# Altium footprint library 通用接插件.PcbLib: 40 footprints (part 3 of 3)
Each footprint in its own frame and in the unit in brackets; x right, y up, seen from the top. Pads: shape width x height; smd on the part's side, far side on the other; paste and mask are expansions set on the pad; w line width, h text height; cw(c..) or ccw(c..) is an arc to the next point about the centre after c.
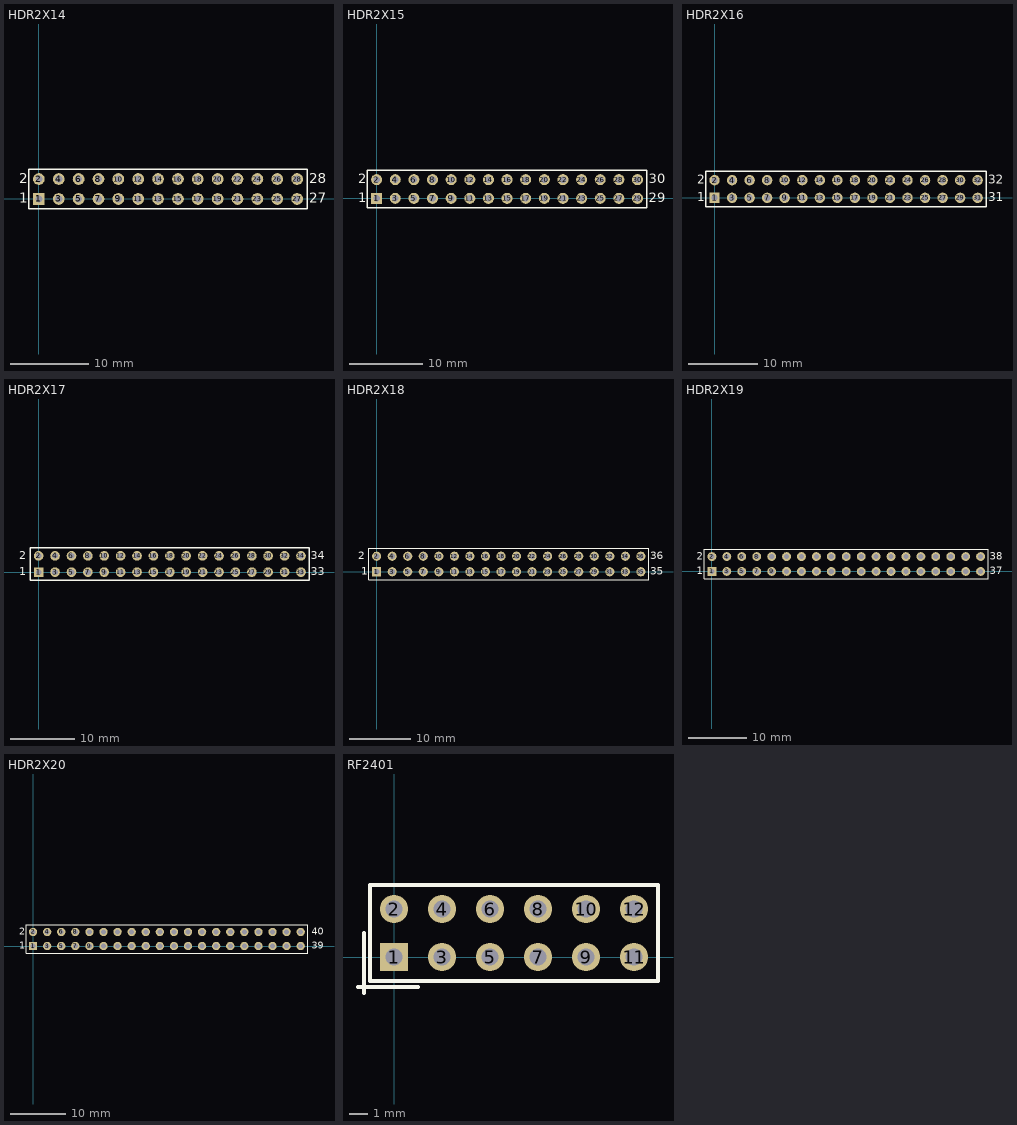
[diagram p2: the footprints below, top view; thin cyan lines are the x and y axes]

## HDR2X14 [mm] "Connector; Header; 14x2 Position"
pads (28):
  rect 1.5x1.5 hole 0.9: 1(0,0)
  round 1.5 hole 0.9: 2(0,2.54) 3(2.54,0) 4(2.54,2.54) 5(5.08,0) 6(5.08,2.54) 7(7.62,0) 8(7.62,2.54) 9(10.16,0) 10(10.16,2.54) 11(12.7,0) 12(12.7,2.54) 13(15.24,0) 14(15.24,2.54) 15(17.78,0) 16(17.78,2.54) 17(20.32,0) 18(20.32,2.54) 19(22.86,0) 20(22.86,2.54) 21(25.4,0) 22(25.4,2.54) 23(27.94,0) 24(27.94,2.54) 25(30.48,0) 26(30.48,2.54) 27(33.02,0) 28(33.02,2.54)
Top Overlay:
  lines w0.2: -1.27,-1.27 -1.27,3.81 34.29,3.81 34.29,-1.27 -1.27,-1.27
  text "2" at -2.54,2.032 h1.27
  text "1" at -2.54,-0.508 h1.27
  text "27" at 34.544,-0.508 h1.27
  text "28" at 34.544,2.032 h1.27
3D body: height 7.58, standoff -2.94, extent 31.75,1.27 34.29,3.81
3D body: height 7.58, standoff -2.94, extent 29.21,1.27 31.75,3.81
3D body: height 7.58, standoff -2.94, extent 31.75,-1.27 34.29,1.27
3D body: height 7.58, standoff -2.94, extent 29.21,-1.27 31.75,1.27
3D body: height 7.58, standoff -2.94, extent 26.67,1.27 29.21,3.81
3D body: height 7.58, standoff -2.94, extent 24.13,1.27 26.67,3.81
3D body: height 7.58, standoff -2.94, extent 21.59,1.27 24.13,3.81
3D body: height 7.58, standoff -2.94, extent 19.05,1.27 21.59,3.81
3D body: height 7.58, standoff -2.94, extent 26.67,-1.27 29.21,1.27
3D body: height 7.58, standoff -2.94, extent 24.13,-1.27 26.67,1.27
3D body: height 7.58, standoff -2.94, extent 21.59,-1.27 24.13,1.27
3D body: height 7.58, standoff -2.94, extent 19.05,-1.27 21.59,1.27
3D body: height 7.58, standoff -2.94, extent 16.51,1.27 19.05,3.81
3D body: height 7.58, standoff -2.94, extent 13.97,1.27 16.51,3.81
3D body: height 7.58, standoff -2.94, extent 11.43,1.27 13.97,3.81
3D body: height 7.58, standoff -2.94, extent 8.89,1.27 11.43,3.81
3D body: height 7.58, standoff -2.94, extent 16.51,-1.27 19.05,1.27
3D body: height 7.58, standoff -2.94, extent 13.97,-1.27 16.51,1.27
3D body: height 7.58, standoff -2.94, extent 11.43,-1.27 13.97,1.27
3D body: height 7.58, standoff -2.94, extent 8.89,-1.27 11.43,1.27
3D body: height 7.58, standoff -2.94, extent 6.35,1.27 8.89,3.81
3D body: height 7.58, standoff -2.94, extent 3.81,1.27 6.35,3.81
3D body: height 7.58, standoff -2.94, extent 1.27,1.27 3.81,3.81
3D body: height 7.58, standoff -2.94, extent -1.27,1.27 1.27,3.81
3D body: height 7.58, standoff -2.94, extent 6.35,-1.27 8.89,1.27
3D body: height 7.58, standoff -2.94, extent 3.81,-1.27 6.35,1.27
3D body: height 7.58, standoff -2.94, extent 1.27,-1.27 3.81,1.27
3D body: height 7.58, standoff -2.94, extent -1.27,-1.27 1.27,1.27

## HDR2X15 [mm] "Connector; Header; 15x2 Position"
pads (30):
  rect 1.5x1.5 hole 0.9: 1(0,0)
  round 1.5 hole 0.9: 2(0,2.54) 3(2.54,0) 4(2.54,2.54) 5(5.08,0) 6(5.08,2.54) 7(7.62,0) 8(7.62,2.54) 9(10.16,0) 10(10.16,2.54) 11(12.7,0) 12(12.7,2.54) 13(15.24,0) 14(15.24,2.54) 15(17.78,0) 16(17.78,2.54) 17(20.32,0) 18(20.32,2.54) 19(22.86,0) 20(22.86,2.54) 21(25.4,0) 22(25.4,2.54) 23(27.94,0) 24(27.94,2.54) 25(30.48,0) 26(30.48,2.54) 27(33.02,0) 28(33.02,2.54) 29(35.56,0) 30(35.56,2.54)
Top Overlay:
  lines w0.2: -1.27,-1.27 -1.27,3.81 36.83,3.81 36.83,-1.27 -1.27,-1.27
  text "30" at 37.084,2.032 h1.27
  text "29" at 37.084,-0.508 h1.27
  text "2" at -2.54,2.032 h1.27
  text "1" at -2.54,-0.508 h1.27
3D body: height 7.58, standoff -2.94, extent -1.27,-1.27 1.27,1.27
3D body: height 7.58, standoff -2.94, extent 1.27,-1.27 3.81,1.27
3D body: height 7.58, standoff -2.94, extent 3.81,-1.27 6.35,1.27
3D body: height 7.58, standoff -2.94, extent 6.35,-1.27 8.89,1.27
3D body: height 7.58, standoff -2.94, extent -1.27,1.27 1.27,3.81
3D body: height 7.58, standoff -2.94, extent 1.27,1.27 3.81,3.81
3D body: height 7.58, standoff -2.94, extent 3.81,1.27 6.35,3.81
3D body: height 7.58, standoff -2.94, extent 6.35,1.27 8.89,3.81
3D body: height 7.58, standoff -2.94, extent 8.89,-1.27 11.43,1.27
3D body: height 7.58, standoff -2.94, extent 11.43,-1.27 13.97,1.27
3D body: height 7.58, standoff -2.94, extent 13.97,-1.27 16.51,1.27
3D body: height 7.58, standoff -2.94, extent 16.51,-1.27 19.05,1.27
3D body: height 7.58, standoff -2.94, extent 8.89,1.27 11.43,3.81
3D body: height 7.58, standoff -2.94, extent 11.43,1.27 13.97,3.81
3D body: height 7.58, standoff -2.94, extent 13.97,1.27 16.51,3.81
3D body: height 7.58, standoff -2.94, extent 16.51,1.27 19.05,3.81
3D body: height 7.58, standoff -2.94, extent 19.05,-1.27 21.59,1.27
3D body: height 7.58, standoff -2.94, extent 21.59,-1.27 24.13,1.27
3D body: height 7.58, standoff -2.94, extent 24.13,-1.27 26.67,1.27
3D body: height 7.58, standoff -2.94, extent 26.67,-1.27 29.21,1.27
3D body: height 7.58, standoff -2.94, extent 19.05,1.27 21.59,3.81
3D body: height 7.58, standoff -2.94, extent 21.59,1.27 24.13,3.81
3D body: height 7.58, standoff -2.94, extent 24.13,1.27 26.67,3.81
3D body: height 7.58, standoff -2.94, extent 26.67,1.27 29.21,3.81
3D body: height 7.58, standoff -2.94, extent 29.21,-1.27 31.75,1.27
3D body: height 7.58, standoff -2.94, extent 31.75,-1.27 34.29,1.27
3D body: height 7.58, standoff -2.94, extent 34.29,-1.27 36.83,1.27
3D body: height 7.58, standoff -2.94, extent 29.21,1.27 31.75,3.81
3D body: height 7.58, standoff -2.94, extent 31.75,1.27 34.29,3.81
3D body: height 7.58, standoff -2.94, extent 34.29,1.27 36.83,3.81

## HDR2X16 [mm] "Connector; Header; 16x2 Position"
pads (32):
  rect 1.5x1.5 hole 0.9: 1(0,0)
  round 1.5 hole 0.9: 2(0,2.54) 3(2.54,0) 4(2.54,2.54) 5(5.08,0) 6(5.08,2.54) 7(7.62,0) 8(7.62,2.54) 9(10.16,0) 10(10.16,2.54) 11(12.7,0) 12(12.7,2.54) 13(15.24,0) 14(15.24,2.54) 15(17.78,0) 16(17.78,2.54) 17(20.32,0) 18(20.32,2.54) 19(22.86,0) 20(22.86,2.54) 21(25.4,0) 22(25.4,2.54) 23(27.94,0) 24(27.94,2.54) 25(30.48,0) 26(30.48,2.54) 27(33.02,0) 28(33.02,2.54) 29(35.56,0) 30(35.56,2.54) 31(38.1,0) 32(38.1,2.54)
Top Overlay:
  lines w0.2: -1.27,-1.27 -1.27,3.81 39.37,3.81 39.37,-1.27 -1.27,-1.27
  text "32" at 39.624,2.032 h1.27
  text "31" at 39.624,-0.508 h1.27
  text "1" at -2.54,-0.508 h1.27
  text "2" at -2.54,2.032 h1.27
3D body: height 7.58, standoff -2.94, extent 36.83,1.27 39.37,3.81
3D body: height 7.58, standoff -2.94, extent 34.29,1.27 36.83,3.81
3D body: height 7.58, standoff -2.94, extent 31.75,1.27 34.29,3.81
3D body: height 7.58, standoff -2.94, extent 29.21,1.27 31.75,3.81
3D body: height 7.58, standoff -2.94, extent 36.83,-1.27 39.37,1.27
3D body: height 7.58, standoff -2.94, extent 34.29,-1.27 36.83,1.27
3D body: height 7.58, standoff -2.94, extent 31.75,-1.27 34.29,1.27
3D body: height 7.58, standoff -2.94, extent 29.21,-1.27 31.75,1.27
3D body: height 7.58, standoff -2.94, extent 26.67,1.27 29.21,3.81
3D body: height 7.58, standoff -2.94, extent 24.13,1.27 26.67,3.81
3D body: height 7.58, standoff -2.94, extent 21.59,1.27 24.13,3.81
3D body: height 7.58, standoff -2.94, extent 19.05,1.27 21.59,3.81
3D body: height 7.58, standoff -2.94, extent 26.67,-1.27 29.21,1.27
3D body: height 7.58, standoff -2.94, extent 24.13,-1.27 26.67,1.27
3D body: height 7.58, standoff -2.94, extent 21.59,-1.27 24.13,1.27
3D body: height 7.58, standoff -2.94, extent 19.05,-1.27 21.59,1.27
3D body: height 7.58, standoff -2.94, extent 16.51,1.27 19.05,3.81
3D body: height 7.58, standoff -2.94, extent 13.97,1.27 16.51,3.81
3D body: height 7.58, standoff -2.94, extent 11.43,1.27 13.97,3.81
3D body: height 7.58, standoff -2.94, extent 8.89,1.27 11.43,3.81
3D body: height 7.58, standoff -2.94, extent 16.51,-1.27 19.05,1.27
3D body: height 7.58, standoff -2.94, extent 13.97,-1.27 16.51,1.27
3D body: height 7.58, standoff -2.94, extent 11.43,-1.27 13.97,1.27
3D body: height 7.58, standoff -2.94, extent 8.89,-1.27 11.43,1.27
3D body: height 7.58, standoff -2.94, extent 6.35,1.27 8.89,3.81
3D body: height 7.58, standoff -2.94, extent 3.81,1.27 6.35,3.81
3D body: height 7.58, standoff -2.94, extent 1.27,1.27 3.81,3.81
3D body: height 7.58, standoff -2.94, extent -1.27,1.27 1.27,3.81
3D body: height 7.58, standoff -2.94, extent 6.35,-1.27 8.89,1.27
3D body: height 7.58, standoff -2.94, extent 3.81,-1.27 6.35,1.27
3D body: height 7.58, standoff -2.94, extent 1.27,-1.27 3.81,1.27
3D body: height 7.58, standoff -2.94, extent -1.27,-1.27 1.27,1.27

## HDR2X17 [mm] "Connector; Header; 17x2 Position"
pads (34):
  rect 1.5x1.5 hole 0.9: 1(0,0)
  round 1.5 hole 0.9: 2(0,2.54) 3(2.54,0) 4(2.54,2.54) 5(5.08,0) 6(5.08,2.54) 7(7.62,0) 8(7.62,2.54) 9(10.16,0) 10(10.16,2.54) 11(12.7,0) 12(12.7,2.54) 13(15.24,0) 14(15.24,2.54) 15(17.78,0) 16(17.78,2.54) 17(20.32,0) 18(20.32,2.54) 19(22.86,0) 20(22.86,2.54) 21(25.4,0) 22(25.4,2.54) 23(27.94,0) 24(27.94,2.54) 25(30.48,0) 26(30.48,2.54) 27(33.02,0) 28(33.02,2.54) 29(35.56,0) 30(35.56,2.54) 31(38.1,0) 32(38.1,2.54) 33(40.64,0) 34(40.64,2.54)
Top Overlay:
  lines w0.2: -1.27,-1.27 -1.27,3.81 41.91,3.81 41.91,-1.27 -1.27,-1.27
  text "2" at -3.048,2.032 h1.27
  text "1" at -3.048,-0.508 h1.27
  text "33" at 42.164,-0.508 h1.27
  text "34" at 42.164,2.032 h1.27
3D body: height 7.58, standoff -2.94, extent 39.37,1.27 41.91,3.81
3D body: height 7.58, standoff -2.94, extent 39.37,-1.27 41.91,1.27
3D body: height 7.58, standoff -2.94, extent 36.83,1.27 39.37,3.81
3D body: height 7.58, standoff -2.94, extent 34.29,1.27 36.83,3.81
3D body: height 7.58, standoff -2.94, extent 31.75,1.27 34.29,3.81
3D body: height 7.58, standoff -2.94, extent 29.21,1.27 31.75,3.81
3D body: height 7.58, standoff -2.94, extent 36.83,-1.27 39.37,1.27
3D body: height 7.58, standoff -2.94, extent 34.29,-1.27 36.83,1.27
3D body: height 7.58, standoff -2.94, extent 31.75,-1.27 34.29,1.27
3D body: height 7.58, standoff -2.94, extent 29.21,-1.27 31.75,1.27
3D body: height 7.58, standoff -2.94, extent 26.67,1.27 29.21,3.81
3D body: height 7.58, standoff -2.94, extent 24.13,1.27 26.67,3.81
3D body: height 7.58, standoff -2.94, extent 21.59,1.27 24.13,3.81
3D body: height 7.58, standoff -2.94, extent 19.05,1.27 21.59,3.81
3D body: height 7.58, standoff -2.94, extent 26.67,-1.27 29.21,1.27
3D body: height 7.58, standoff -2.94, extent 24.13,-1.27 26.67,1.27
3D body: height 7.58, standoff -2.94, extent 21.59,-1.27 24.13,1.27
3D body: height 7.58, standoff -2.94, extent 19.05,-1.27 21.59,1.27
3D body: height 7.58, standoff -2.94, extent 16.51,1.27 19.05,3.81
3D body: height 7.58, standoff -2.94, extent 13.97,1.27 16.51,3.81
3D body: height 7.58, standoff -2.94, extent 11.43,1.27 13.97,3.81
3D body: height 7.58, standoff -2.94, extent 8.89,1.27 11.43,3.81
3D body: height 7.58, standoff -2.94, extent 16.51,-1.27 19.05,1.27
3D body: height 7.58, standoff -2.94, extent 13.97,-1.27 16.51,1.27
3D body: height 7.58, standoff -2.94, extent 11.43,-1.27 13.97,1.27
3D body: height 7.58, standoff -2.94, extent 8.89,-1.27 11.43,1.27
3D body: height 7.58, standoff -2.94, extent 6.35,1.27 8.89,3.81
3D body: height 7.58, standoff -2.94, extent 3.81,1.27 6.35,3.81
3D body: height 7.58, standoff -2.94, extent 1.27,1.27 3.81,3.81
3D body: height 7.58, standoff -2.94, extent -1.27,1.27 1.27,3.81
3D body: height 7.58, standoff -2.94, extent 6.35,-1.27 8.89,1.27
3D body: height 7.58, standoff -2.94, extent 3.81,-1.27 6.35,1.27
3D body: height 7.58, standoff -2.94, extent 1.27,-1.27 3.81,1.27
3D body: height 7.58, standoff -2.94, extent -1.27,-1.27 1.27,1.27

## HDR2X18 [mm] "Connector; Header; 18x2 Position"
pads (36):
  rect 1.5x1.5 hole 0.9: 1(0,0)
  round 1.5 hole 0.9: 2(0,2.54) 3(2.54,0) 4(2.54,2.54) 5(5.08,0) 6(5.08,2.54) 7(7.62,0) 8(7.62,2.54) 9(10.16,0) 10(10.16,2.54) 11(12.7,0) 12(12.7,2.54) 13(15.24,0) 14(15.24,2.54) 15(17.78,0) 16(17.78,2.54) 17(20.32,0) 18(20.32,2.54) 19(22.86,0) 20(22.86,2.54) 21(25.4,0) 22(25.4,2.54) 23(27.94,0) 24(27.94,2.54) 25(30.48,0) 26(30.48,2.54) 27(33.02,0) 28(33.02,2.54) 29(35.56,0) 30(35.56,2.54) 31(38.1,0) 32(38.1,2.54) 33(40.64,0) 34(40.64,2.54) 35(43.18,0) 36(43.18,2.54)
Top Overlay:
  lines w0.2: -1.27,-1.27 44.45,-1.27 44.45,3.81 -1.27,3.81 -1.27,-1.27
  text "36" at 44.704,2.032 h1.27
  text "35" at 44.704,-0.508 h1.27
  text "1" at -2.54,-0.508 h1.27
  text "2" at -3.048,2.032 h1.27
3D body: height 7.58, standoff -2.94, extent 41.91,1.27 44.45,3.81
3D body: height 7.58, standoff -2.94, extent 39.37,1.27 41.91,3.81
3D body: height 7.58, standoff -2.94, extent 41.91,-1.27 44.45,1.27
3D body: height 7.58, standoff -2.94, extent 39.37,-1.27 41.91,1.27
3D body: height 7.58, standoff -2.94, extent 36.83,1.27 39.37,3.81
3D body: height 7.58, standoff -2.94, extent 34.29,1.27 36.83,3.81
3D body: height 7.58, standoff -2.94, extent 31.75,1.27 34.29,3.81
3D body: height 7.58, standoff -2.94, extent 29.21,1.27 31.75,3.81
3D body: height 7.58, standoff -2.94, extent 36.83,-1.27 39.37,1.27
3D body: height 7.58, standoff -2.94, extent 34.29,-1.27 36.83,1.27
3D body: height 7.58, standoff -2.94, extent 31.75,-1.27 34.29,1.27
3D body: height 7.58, standoff -2.94, extent 29.21,-1.27 31.75,1.27
3D body: height 7.58, standoff -2.94, extent 26.67,1.27 29.21,3.81
3D body: height 7.58, standoff -2.94, extent 24.13,1.27 26.67,3.81
3D body: height 7.58, standoff -2.94, extent 21.59,1.27 24.13,3.81
3D body: height 7.58, standoff -2.94, extent 19.05,1.27 21.59,3.81
3D body: height 7.58, standoff -2.94, extent 26.67,-1.27 29.21,1.27
3D body: height 7.58, standoff -2.94, extent 24.13,-1.27 26.67,1.27
3D body: height 7.58, standoff -2.94, extent 21.59,-1.27 24.13,1.27
3D body: height 7.58, standoff -2.94, extent 19.05,-1.27 21.59,1.27
3D body: height 7.58, standoff -2.94, extent 16.51,1.27 19.05,3.81
3D body: height 7.58, standoff -2.94, extent 13.97,1.27 16.51,3.81
3D body: height 7.58, standoff -2.94, extent 11.43,1.27 13.97,3.81
3D body: height 7.58, standoff -2.94, extent 8.89,1.27 11.43,3.81
3D body: height 7.58, standoff -2.94, extent 16.51,-1.27 19.05,1.27
3D body: height 7.58, standoff -2.94, extent 13.97,-1.27 16.51,1.27
3D body: height 7.58, standoff -2.94, extent 11.43,-1.27 13.97,1.27
3D body: height 7.58, standoff -2.94, extent 8.89,-1.27 11.43,1.27
3D body: height 7.58, standoff -2.94, extent 6.35,1.27 8.89,3.81
3D body: height 7.58, standoff -2.94, extent 3.81,1.27 6.35,3.81
3D body: height 7.58, standoff -2.94, extent 1.27,1.27 3.81,3.81
3D body: height 7.58, standoff -2.94, extent -1.27,1.27 1.27,3.81
3D body: height 7.58, standoff -2.94, extent 6.35,-1.27 8.89,1.27
3D body: height 7.58, standoff -2.94, extent 3.81,-1.27 6.35,1.27
3D body: height 7.58, standoff -2.94, extent 1.27,-1.27 3.81,1.27
3D body: height 7.58, standoff -2.94, extent -1.27,-1.27 1.27,1.27

## HDR2X19 [mm] "Connector; Header; 19x2 Position"
pads (38):
  rect 1.5x1.5 hole 0.9: 1(0,0)
  round 1.5 hole 0.9: 2(0,2.54) 3(2.54,0) 4(2.54,2.54) 5(5.08,0) 6(5.08,2.54) 7(7.62,0) 8(7.62,2.54) 9(10.16,0) 10(10.16,2.54) 11(12.7,0) 12(12.7,2.54) 13(15.24,0) 14(15.24,2.54) 15(17.78,0) 16(17.78,2.54) 17(20.32,0) 18(20.32,2.54) 19(22.86,0) 20(22.86,2.54) 21(25.4,0) 22(25.4,2.54) 23(27.94,0) 24(27.94,2.54) 25(30.48,0) 26(30.48,2.54) 27(33.02,0) 28(33.02,2.54) 29(35.56,0) 30(35.56,2.54) 31(38.1,0) 32(38.1,2.54) 33(40.64,0) 34(40.64,2.54) 35(43.18,0) 36(43.18,2.54) 37(45.72,0) 38(45.72,2.54)
Top Overlay:
  lines w0.2: -1.27,-1.27 -1.27,3.81 46.99,3.81 46.99,-1.27 -1.27,-1.27
  text "38" at 47.244,2.032 h1.27
  text "37" at 47.244,-0.508 h1.27
  text "1" at -2.54,-0.508 h1.27
  text "2" at -2.54,2.032 h1.27
3D body: height 7.58, standoff -2.94, extent -1.27,-1.27 1.27,1.27
3D body: height 7.58, standoff -2.94, extent 1.27,-1.27 3.81,1.27
3D body: height 7.58, standoff -2.94, extent 3.81,-1.27 6.35,1.27
3D body: height 7.58, standoff -2.94, extent 6.35,-1.27 8.89,1.27
3D body: height 7.58, standoff -2.94, extent -1.27,1.27 1.27,3.81
3D body: height 7.58, standoff -2.94, extent 1.27,1.27 3.81,3.81
3D body: height 7.58, standoff -2.94, extent 3.81,1.27 6.35,3.81
3D body: height 7.58, standoff -2.94, extent 6.35,1.27 8.89,3.81
3D body: height 7.58, standoff -2.94, extent 8.89,-1.27 11.43,1.27
3D body: height 7.58, standoff -2.94, extent 11.43,-1.27 13.97,1.27
3D body: height 7.58, standoff -2.94, extent 13.97,-1.27 16.51,1.27
3D body: height 7.58, standoff -2.94, extent 16.51,-1.27 19.05,1.27
3D body: height 7.58, standoff -2.94, extent 8.89,1.27 11.43,3.81
3D body: height 7.58, standoff -2.94, extent 11.43,1.27 13.97,3.81
3D body: height 7.58, standoff -2.94, extent 13.97,1.27 16.51,3.81
3D body: height 7.58, standoff -2.94, extent 16.51,1.27 19.05,3.81
3D body: height 7.58, standoff -2.94, extent 19.05,-1.27 21.59,1.27
3D body: height 7.58, standoff -2.94, extent 21.59,-1.27 24.13,1.27
3D body: height 7.58, standoff -2.94, extent 24.13,-1.27 26.67,1.27
3D body: height 7.58, standoff -2.94, extent 26.67,-1.27 29.21,1.27
3D body: height 7.58, standoff -2.94, extent 19.05,1.27 21.59,3.81
3D body: height 7.58, standoff -2.94, extent 21.59,1.27 24.13,3.81
3D body: height 7.58, standoff -2.94, extent 24.13,1.27 26.67,3.81
3D body: height 7.58, standoff -2.94, extent 26.67,1.27 29.21,3.81
3D body: height 7.58, standoff -2.94, extent 29.21,-1.27 31.75,1.27
3D body: height 7.58, standoff -2.94, extent 31.75,-1.27 34.29,1.27
3D body: height 7.58, standoff -2.94, extent 34.29,-1.27 36.83,1.27
3D body: height 7.58, standoff -2.94, extent 36.83,-1.27 39.37,1.27
3D body: height 7.58, standoff -2.94, extent 29.21,1.27 31.75,3.81
3D body: height 7.58, standoff -2.94, extent 31.75,1.27 34.29,3.81
3D body: height 7.58, standoff -2.94, extent 34.29,1.27 36.83,3.81
3D body: height 7.58, standoff -2.94, extent 36.83,1.27 39.37,3.81
3D body: height 7.58, standoff -2.94, extent 39.37,-1.27 41.91,1.27
3D body: height 7.58, standoff -2.94, extent 41.91,-1.27 44.45,1.27
3D body: height 7.58, standoff -2.94, extent 44.45,-1.27 46.99,1.27
3D body: height 7.58, standoff -2.94, extent 39.37,1.27 41.91,3.81
3D body: height 7.58, standoff -2.94, extent 41.91,1.27 44.45,3.81
3D body: height 7.58, standoff -2.94, extent 44.45,1.27 46.99,3.81

## HDR2X20 [mm] "Connector; Header; 20x2 Position"
pads (40):
  rect 1.5x1.5 hole 0.9: 1(0,0)
  round 1.5 hole 0.9: 2(0,2.54) 3(2.54,0) 4(2.54,2.54) 5(5.08,0) 6(5.08,2.54) 7(7.62,0) 8(7.62,2.54) 9(10.16,0) 10(10.16,2.54) 11(12.7,0) 12(12.7,2.54) 13(15.24,0) 14(15.24,2.54) 15(17.78,0) 16(17.78,2.54) 17(20.32,0) 18(20.32,2.54) 19(22.86,0) 20(22.86,2.54) 21(25.4,0) 22(25.4,2.54) 23(27.94,0) 24(27.94,2.54) 25(30.48,0) 26(30.48,2.54) 27(33.02,0) 28(33.02,2.54) 29(35.56,0) 30(35.56,2.54) 31(38.1,0) 32(38.1,2.54) 33(40.64,0) 34(40.64,2.54) 35(43.18,0) 36(43.18,2.54) 37(45.72,0) 38(45.72,2.54) 39(48.26,0) 40(48.26,2.54)
Top Overlay:
  lines w0.2: -1.27,-1.27 -1.27,3.81 49.53,3.81 49.53,-1.27 -1.27,-1.27
  text "39" at 50.292,-0.508 h1.27
  text "40" at 50.292,2.032 h1.27
  text "2" at -2.54,2.032 h1.27
  text "1" at -2.54,-0.508 h1.27
3D body: height 7.58, standoff -2.94, extent 6.35,1.27 8.89,3.81
3D body: height 7.58, standoff -2.94, extent 3.81,1.27 6.35,3.81
3D body: height 7.58, standoff -2.94, extent 1.27,1.27 3.81,3.81
3D body: height 7.58, standoff -2.94, extent -1.27,1.27 1.27,3.81
3D body: height 7.58, standoff -2.94, extent 6.35,-1.27 8.89,1.27
3D body: height 7.58, standoff -2.94, extent 3.81,-1.27 6.35,1.27
3D body: height 7.58, standoff -2.94, extent 1.27,-1.27 3.81,1.27
3D body: height 7.58, standoff -2.94, extent -1.27,-1.27 1.27,1.27
3D body: height 7.58, standoff -2.94, extent 8.89,-1.27 11.43,1.27
3D body: height 7.58, standoff -2.94, extent 11.43,-1.27 13.97,1.27
3D body: height 7.58, standoff -2.94, extent 13.97,-1.27 16.51,1.27
3D body: height 7.58, standoff -2.94, extent 16.51,-1.27 19.05,1.27
3D body: height 7.58, standoff -2.94, extent 8.89,1.27 11.43,3.81
3D body: height 7.58, standoff -2.94, extent 11.43,1.27 13.97,3.81
3D body: height 7.58, standoff -2.94, extent 13.97,1.27 16.51,3.81
3D body: height 7.58, standoff -2.94, extent 16.51,1.27 19.05,3.81
3D body: height 7.58, standoff -2.94, extent 19.05,-1.27 21.59,1.27
3D body: height 7.58, standoff -2.94, extent 21.59,-1.27 24.13,1.27
3D body: height 7.58, standoff -2.94, extent 24.13,-1.27 26.67,1.27
3D body: height 7.58, standoff -2.94, extent 26.67,-1.27 29.21,1.27
3D body: height 7.58, standoff -2.94, extent 19.05,1.27 21.59,3.81
3D body: height 7.58, standoff -2.94, extent 21.59,1.27 24.13,3.81
3D body: height 7.58, standoff -2.94, extent 24.13,1.27 26.67,3.81
3D body: height 7.58, standoff -2.94, extent 26.67,1.27 29.21,3.81
3D body: height 7.58, standoff -2.94, extent 29.21,-1.27 31.75,1.27
3D body: height 7.58, standoff -2.94, extent 31.75,-1.27 34.29,1.27
3D body: height 7.58, standoff -2.94, extent 34.29,-1.27 36.83,1.27
3D body: height 7.58, standoff -2.94, extent 36.83,-1.27 39.37,1.27
3D body: height 7.58, standoff -2.94, extent 29.21,1.27 31.75,3.81
3D body: height 7.58, standoff -2.94, extent 31.75,1.27 34.29,3.81
3D body: height 7.58, standoff -2.94, extent 34.29,1.27 36.83,3.81
3D body: height 7.58, standoff -2.94, extent 36.83,1.27 39.37,3.81
3D body: height 7.58, standoff -2.94, extent 39.37,-1.27 41.91,1.27
3D body: height 7.58, standoff -2.94, extent 41.91,-1.27 44.45,1.27
3D body: height 7.58, standoff -2.94, extent 44.45,-1.27 46.99,1.27
3D body: height 7.58, standoff -2.94, extent 46.99,-1.27 49.53,1.27
3D body: height 7.58, standoff -2.94, extent 39.37,1.27 41.91,3.81
3D body: height 7.58, standoff -2.94, extent 41.91,1.27 44.45,3.81
3D body: height 7.58, standoff -2.94, extent 44.45,1.27 46.99,3.81
3D body: height 7.58, standoff -2.94, extent 46.99,1.27 49.53,3.81

## RF2401 [mm]
pads (12):
  rect 1.5x1.5 hole 0.9: 1(0,0)
  round 1.5 hole 0.9: 2(0,2.54) 3(2.54,0) 4(2.54,2.54) 5(5.08,0) 6(5.08,2.54) 7(7.62,0) 8(7.62,2.54) 9(10.16,0) 10(10.16,2.54) 11(12.7,0) 12(12.7,2.54)
Top Overlay:
  lines w0.2: -1.27,-1.27 -1.27,3.81 13.97,3.81 13.97,-1.27 -1.27,-1.27
  lines w0.203: -1.905,-1.587 1.27,-1.587 ; -1.587,-1.905 -1.587,1.27
3D body: height 57.51, standoff -4.96, extent -2.15,-1.27 14.85,32.73